# EAGLE library part CONN-DIL-14 (library pel_dil)
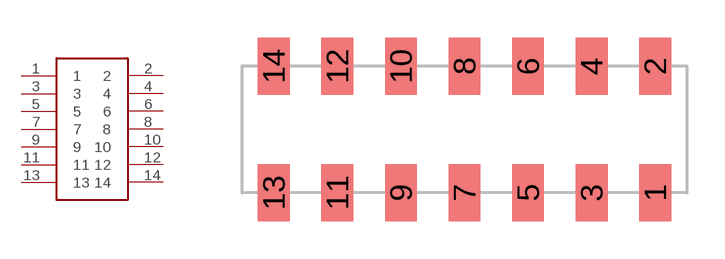
[diagram p0: symbol with the pads of HLE-DV-7; footprint HLE-DV-7]

Designator prefix X

## CONN-DIL-14-HLE-DV  [HLE-DV-7]
1  1
2  2
3  3
4  4
5  5
6  6
7  7
8  8
9  9
10  10
11  11
12  12
13  13
14  14

## Footprint HLE-DV-7 (pad centres in mm)
smd 1.27 x 2.29: 1 7.62,-2.527; 2 7.62,2.527; 3 5.08,-2.527; 4 5.08,2.527; 5 2.54,-2.527; 6 2.54,2.527; 7 0,-2.527; 8 0,2.527; 9 -2.54,-2.527; 10 -2.54,2.527; 11 -5.08,-2.527; 12 -5.08,2.527; 13 -7.62,-2.527; 14 -7.62,2.527